# Altium integrated library AntLib.IntLib: 1 symbol
Pins are listed as number, name and electrical type; pins without a type are passive.

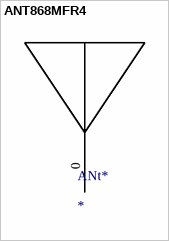
[diagram p0: symbol ANT868MFR4]

## ANT868MFR4
designator ANt*
footprint ANT868MFR4
footprint ANT2G4FR4
pins: 0